# Altium footprint library 2N7002DW.PcbLib: 3 footprints
Each footprint in its own frame and in the unit in brackets; x right, y up, seen from the top. Pads: shape width x height; smd on the part's side, far side on the other; paste and mask are expansions set on the pad; w line width, h text height; cw(c..) or ccw(c..) is an arc to the next point about the centre after c.
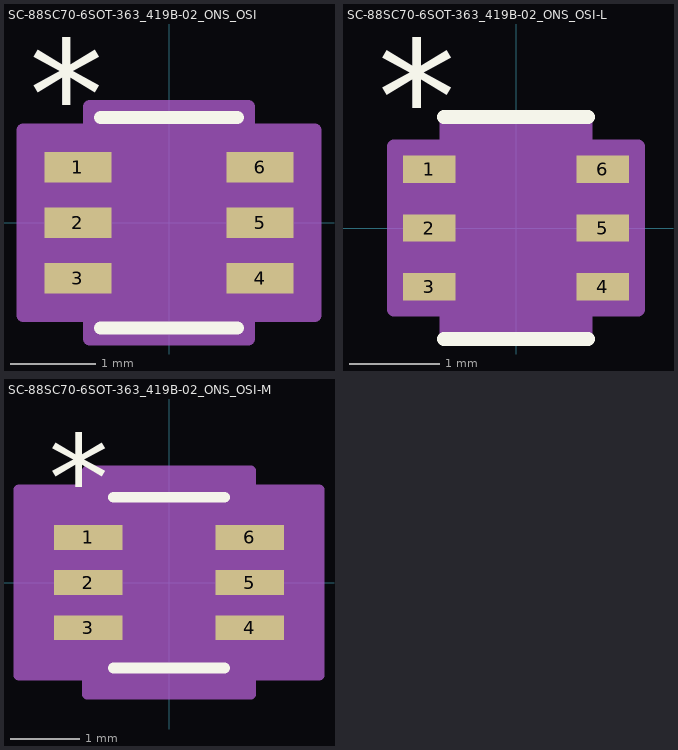
[diagram p0: the footprints below, top view; thin cyan lines are the x and y axes]

## SC-88SC70-6SOT-363_419B-02_ONS_OSI [mm]
pads (6):
  rect 0.782x0.355 smd paste+0 mask+0: 1(-1.064,0.65) 2(-1.064,0) 3(-1.064,-0.65) 4(1.064,-0.65) 5(1.064,0) 6(1.064,0.65)
Top Overlay:
  lines w0.152: -0.8,-1.232 0.8,-1.232 ; -0.8,1.232 0.8,1.232
  text ".Designator" at -3.492,-0.635 h1.27
  text "*" at -1.636,0.878 h1.27
Mechanical 13:
  lines w0.025: -0.305,1.105 ccw(c0,1.105) 0.305,1.105 ; -1.105,-0.802 -1.105,-0.498 -0.673,-0.498 -0.673,-0.802 -1.105,-0.802 ; -1.105,-0.152 -1.105,0.152 -0.673,0.152 -0.673,-0.152 -1.105,-0.152 ; -1.105,0.498 -1.105,0.802 -0.673,0.802 -0.673,0.498 -1.105,0.498 ; -0.673,-1.105 0.673,-1.105 0.673,1.105 -0.673,1.105 -0.673,-1.105 ; 0.673,-0.802 0.673,-0.498 1.105,-0.498 1.105,-0.802 0.673,-0.802 ; 0.673,-0.152 0.673,0.152 1.105,0.152 1.105,-0.152 0.673,-0.152 ; 0.673,0.498 0.673,0.802 1.105,0.802 1.105,0.498 0.673,0.498
  text "*" at -0.61,-0.241 h1.27
  text ".Designator" at -3.492,-0.635 h1.27
Mechanical 15:
  region: -0.927,-1.081 -1.709,-1.081 -1.709,1.081 -0.927,1.081 -0.927,1.359 0.927,1.359 0.927,1.081 1.709,1.081 1.709,-1.081 0.927,-1.081 0.927,-1.359 -0.927,-1.359
  lines w0.152: -1.709,-1.081 -1.709,1.081 -0.927,1.081 -0.927,1.359 0.927,1.359 0.927,1.081 1.709,1.081 1.709,-1.081 0.927,-1.081 0.927,-1.359 -0.927,-1.359 -0.927,-1.081 -1.709,-1.081
3D body "SC-88SC70-6SOT-363_419B-02_ONS_OSI.step": height 1.09, standoff 0, extent -1.105,-1.105 1.105,1.105

## SC-88SC70-6SOT-363_419B-02_ONS_OSI-L [mil]
pads (6):
  rect 22.91x12 smd paste+0 mask+0: 1(-37.95,25.59) 2(-37.95,0) 3(-37.95,-25.59) 4(37.95,-25.59) 5(37.95,0) 6(37.95,25.59)
Top Overlay:
  lines w6: -31.5,-48.5 31.5,-48.5 ; -31.5,48.5 31.5,48.5
  text ".Designator" at -137.5,-25 h50
  text "*" at -60.45,32.59 h50
Mechanical 13:
  lines w1: -12,43.5 ccw(c0,43.5) 12,43.5 ; -43.5,-31.59 -43.5,-19.59 -26.5,-19.59 -26.5,-31.59 -43.5,-31.59 ; -43.5,-6 -43.5,6 -26.5,6 -26.5,-6 -43.5,-6 ; -43.5,19.59 -43.5,31.59 -26.5,31.59 -26.5,19.59 -43.5,19.59 ; -26.5,-43.5 26.5,-43.5 26.5,43.5 -26.5,43.5 -26.5,-43.5 ; 26.5,-31.59 26.5,-19.59 43.5,-19.59 43.5,-31.59 26.5,-31.59 ; 26.5,-6 26.5,6 43.5,6 43.5,-6 26.5,-6 ; 26.5,19.59 26.5,31.59 43.5,31.59 43.5,19.59 26.5,19.59
  text "*" at -24,-9.5 h50
  text ".Designator" at -137.5,-25 h50
Mechanical 15:
  region: -30.5,-35.59 -53.41,-35.59 -53.41,35.59 -30.5,35.59 -30.5,47.5 30.5,47.5 30.5,35.59 53.41,35.59 53.41,-35.59 30.5,-35.59 30.5,-47.5 -30.5,-47.5
  lines w6: -53.41,-35.59 -53.41,35.59 -30.5,35.59 -30.5,47.5 30.5,47.5 30.5,35.59 53.41,35.59 53.41,-35.59 30.5,-35.59 30.5,-47.5 -30.5,-47.5 -30.5,-35.59 -53.41,-35.59
3D body "SC-88SC70-6SOT-363_419B-02_ONS_OSI.step": height 43.11, standoff 0, extent -43.5,-43.5 43.5,43.5

## SC-88SC70-6SOT-363_419B-02_ONS_OSI-M [mm]
pads (6):
  rect 0.982x0.355 smd paste+0 mask+0: 1(-1.164,0.65) 2(-1.164,0) 3(-1.164,-0.65) 4(1.164,-0.65) 5(1.164,0) 6(1.164,0.65)
Top Overlay:
  lines w0.152: -0.8,-1.232 0.8,-1.232 ; -0.8,1.232 0.8,1.232
  text ".Designator" at -3.492,-0.635 h1.27
  text "*" at -1.736,0.878 h1.27
Mechanical 13:
  lines w0.025: -0.305,1.105 ccw(c0,1.105) 0.305,1.105 ; -1.105,-0.802 -1.105,-0.498 -0.673,-0.498 -0.673,-0.802 -1.105,-0.802 ; -1.105,-0.152 -1.105,0.152 -0.673,0.152 -0.673,-0.152 -1.105,-0.152 ; -1.105,0.498 -1.105,0.802 -0.673,0.802 -0.673,0.498 -1.105,0.498 ; -0.673,-1.105 0.673,-1.105 0.673,1.105 -0.673,1.105 -0.673,-1.105 ; 0.673,-0.802 0.673,-0.498 1.105,-0.498 1.105,-0.802 0.673,-0.802 ; 0.673,-0.152 0.673,0.152 1.105,0.152 1.105,-0.152 0.673,-0.152 ; 0.673,0.498 0.673,0.802 1.105,0.802 1.105,0.498 0.673,0.498
  text "*" at -0.61,-0.241 h1.27
  text ".Designator" at -3.492,-0.635 h1.27
Mechanical 15:
  region: -1.181,-1.335 -2.163,-1.335 -2.163,1.335 -1.181,1.335 -1.181,1.613 1.181,1.613 1.181,1.335 2.163,1.335 2.163,-1.335 1.181,-1.335 1.181,-1.613 -1.181,-1.613
  lines w0.152: -2.163,-1.335 -2.163,1.335 -1.181,1.335 -1.181,1.613 1.181,1.613 1.181,1.335 2.163,1.335 2.163,-1.335 1.181,-1.335 1.181,-1.613 -1.181,-1.613 -1.181,-1.335 -2.163,-1.335
3D body "SC-88SC70-6SOT-363_419B-02_ONS_OSI.step": height 1.09, standoff 0, extent -1.105,-1.105 1.105,1.105